# Altium footprint library J 接插件.PcbLib: 458 footprints (part 15 of 29)
Each footprint in its own frame and in the unit in brackets; x right, y up, seen from the top. Pads: shape width x height; smd on the part's side, far side on the other; paste and mask are expansions set on the pad; w line width, h text height; cw(c..) or ccw(c..) is an arc to the next point about the centre after c.
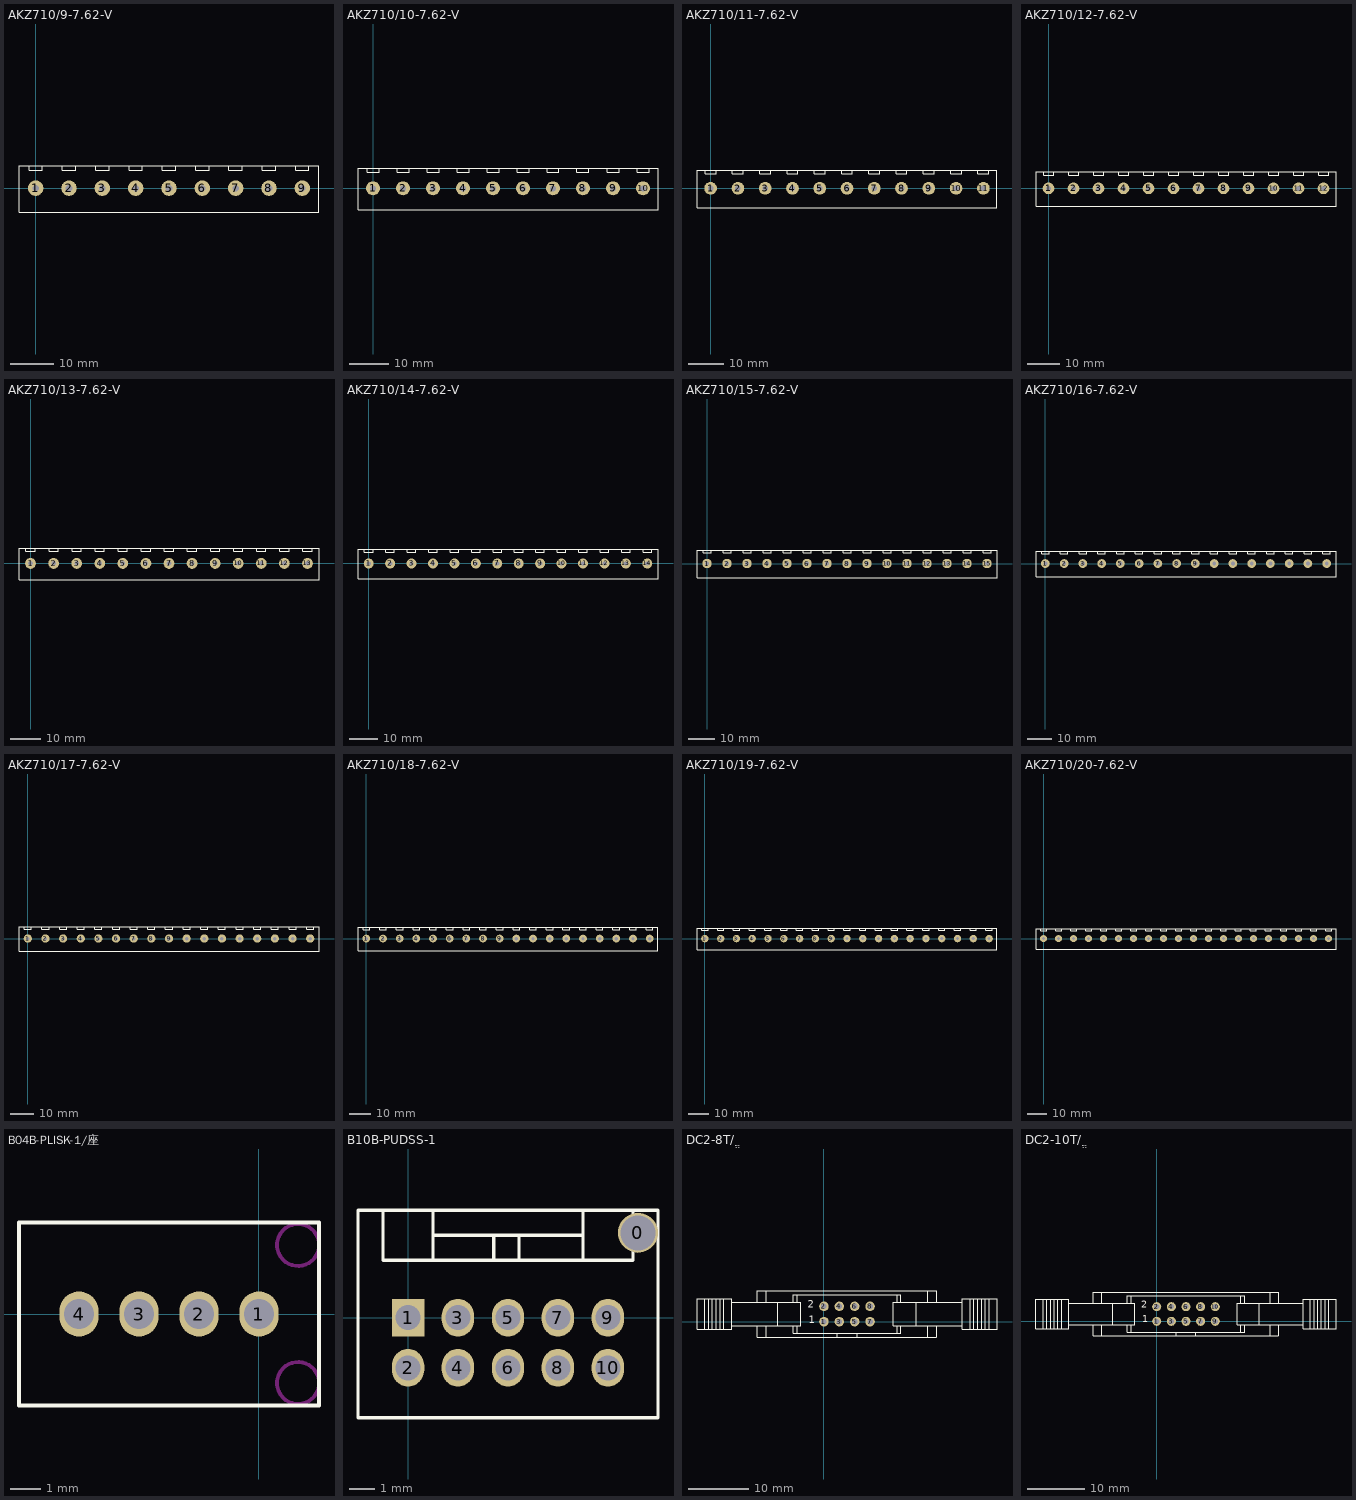
[diagram p14: the footprints below, top view; thin cyan lines are the x and y axes]

## AKZ710/9-7.62-V [mil] "美卡诺 AKZ710 接触件 间距：7.62   9Pin"
height 748.03
pads (9):
  round 140 hole 60: 1(0,0) 2(300,0) 3(600,0) 4(900,0) 5(1200,0) 6(1500,0) 7(1800,0) 8(2100,0) 9(2400,0)
Top Overlay:
  lines w10: -60,200 -60,160 60,160 60,200 ; 240,200 240,160 360,160 360,200 ; 540,200 540,160 660,160 660,200 ; 840,200 840,160 960,160 960,200 ; 1140,200 1140,160 1260,160 1260,200 ; 1440,200 1440,160 1560,160 1560,200 ; 1740,200 1740,160 1860,160 1860,200 ; 2040,200 2040,160 2160,160 2160,200 ; 2340,200 2340,160 2460,160 2460,200 ; -150,-215 -150,200 2550,200 2550,-215 -150,-215

## AKZ710/10-7.62-V [mil] "美卡诺 AKZ710 接触件 间距：7.62   10Pin"
height 748.03
pads (10):
  round 140 hole 60: 1(0,0) 2(300,0) 3(600,0) 4(900,0) 5(1200,0) 6(1500,0) 7(1800,0) 8(2100,0) 9(2400,0) 10(2700,0)
Top Overlay:
  lines w10: -60,200 -60,160 60,160 60,200 ; 240,200 240,160 360,160 360,200 ; 540,200 540,160 660,160 660,200 ; 840,200 840,160 960,160 960,200 ; 1140,200 1140,160 1260,160 1260,200 ; 1440,200 1440,160 1560,160 1560,200 ; 1740,200 1740,160 1860,160 1860,200 ; 2040,200 2040,160 2160,160 2160,200 ; 2340,200 2340,160 2460,160 2460,200 ; 2640,200 2640,160 2760,160 2760,200 ; -150,-215 -150,200 2850,200 2850,-215 -150,-215

## AKZ710/11-7.62-V [mil] "美卡诺 AKZ710 接触件 间距：7.62   11Pin"
height 748.03
pads (11):
  round 140 hole 60: 1(0,0) 2(300,0) 3(600,0) 4(900,0) 5(1200,0) 6(1500,0) 7(1800,0) 8(2100,0) 9(2400,0) 10(2700,0) 11(3000,0)
Top Overlay:
  lines w10: -60,200 -60,160 60,160 60,200 ; 240,200 240,160 360,160 360,200 ; 540,200 540,160 660,160 660,200 ; 840,200 840,160 960,160 960,200 ; 1140,200 1140,160 1260,160 1260,200 ; 1440,200 1440,160 1560,160 1560,200 ; 1740,200 1740,160 1860,160 1860,200 ; 2040,200 2040,160 2160,160 2160,200 ; 2340,200 2340,160 2460,160 2460,200 ; 2640,200 2640,160 2760,160 2760,200 ; 2940,200 2940,160 3060,160 3060,200 ; -150,-215 3150,-215 3150,200 -150,200 -150,-215

## AKZ710/12-7.62-V [mil] "美卡诺 AKZ710 接触件 间距：7.62   12Pin"
height 748.03
pads (12):
  round 140 hole 60: 1(0,0) 2(300,0) 3(600,0) 4(900,0) 5(1200,0) 6(1500,0) 7(1800,0) 8(2100,0) 9(2400,0) 10(2700,0) 11(3000,0) 12(3300,0)
Top Overlay:
  lines w10: -60,200 -60,160 60,160 60,200 ; 240,200 240,160 360,160 360,200 ; 540,200 540,160 660,160 660,200 ; 840,200 840,160 960,160 960,200 ; 1140,200 1140,160 1260,160 1260,200 ; 1440,200 1440,160 1560,160 1560,200 ; 1740,200 1740,160 1860,160 1860,200 ; 2040,200 2040,160 2160,160 2160,200 ; 2340,200 2340,160 2460,160 2460,200 ; 2640,200 2640,160 2760,160 2760,200 ; 2940,200 2940,160 3060,160 3060,200 ; 3240,200 3240,160 3360,160 3360,200 ; -150,-215 -150,200 3450,200 3450,-215 -150,-215

## AKZ710/13-7.62-V [mil] "美卡诺 AKZ710 接触件 间距：7.62   13Pin"
height 748.03
pads (13):
  round 140 hole 60: 1(0,0) 2(300,0) 3(600,0) 4(900,0) 5(1200,0) 6(1500,0) 7(1800,0) 8(2100,0) 9(2400,0) 10(2700,0) 11(3000,0) 12(3300,0) 13(3600,0)
Top Overlay:
  lines w10: -60,200 -60,160 60,160 60,200 ; 240,200 240,160 360,160 360,200 ; 540,200 540,160 660,160 660,200 ; 840,200 840,160 960,160 960,200 ; 1140,200 1140,160 1260,160 1260,200 ; 1440,200 1440,160 1560,160 1560,200 ; 1740,200 1740,160 1860,160 1860,200 ; 2040,200 2040,160 2160,160 2160,200 ; 2340,200 2340,160 2460,160 2460,200 ; 2640,200 2640,160 2760,160 2760,200 ; 2940,200 2940,160 3060,160 3060,200 ; 3240,200 3240,160 3360,160 3360,200 ; 3540,200 3540,160 3660,160 3660,200 ; -150,-215 -150,200 3750,200 3750,-215 -150,-215

## AKZ710/14-7.62-V [mil] "美卡诺 AKZ710 接触件 间距：7.62   14Pin"
height 748.03
pads (14):
  round 140 hole 60: 1(0,0) 2(300,0) 3(600,0) 4(900,0) 5(1200,0) 6(1500,0) 7(1800,0) 8(2100,0) 9(2400,0) 10(2700,0) 11(3000,0) 12(3300,0) 13(3600,0) 14(3900,0)
Top Overlay:
  lines w10: -60,200 -60,160 60,160 60,200 ; 240,200 240,160 360,160 360,200 ; 540,200 540,160 660,160 660,200 ; 840,200 840,160 960,160 960,200 ; 1140,200 1140,160 1260,160 1260,200 ; 1440,200 1440,160 1560,160 1560,200 ; 1740,200 1740,160 1860,160 1860,200 ; 2040,200 2040,160 2160,160 2160,200 ; 2340,200 2340,160 2460,160 2460,200 ; 2640,200 2640,160 2760,160 2760,200 ; 2940,200 2940,160 3060,160 3060,200 ; 3240,200 3240,160 3360,160 3360,200 ; 3540,200 3540,160 3660,160 3660,200 ; 3840,200 3840,160 3960,160 3960,200 ; -150,-215 -150,200 4050,200 4050,-215 -150,-215

## AKZ710/15-7.62-V [mil] "美卡诺 AKZ710 接触件 间距：7.62   15Pin"
height 748.03
pads (15):
  round 140 hole 60: 1(0,0) 2(300,0) 3(600,0) 4(900,0) 5(1200,0) 6(1500,0) 7(1800,0) 8(2100,0) 9(2400,0) 10(2700,0) 11(3000,0) 12(3300,0) 13(3600,0) 14(3900,0) 15(4200,0)
Top Overlay:
  lines w10: -60,200 -60,160 60,160 60,200 ; 240,200 240,160 360,160 360,200 ; 540,200 540,160 660,160 660,200 ; 840,200 840,160 960,160 960,200 ; 1140,200 1140,160 1260,160 1260,200 ; 1440,200 1440,160 1560,160 1560,200 ; 1740,200 1740,160 1860,160 1860,200 ; 2040,200 2040,160 2160,160 2160,200 ; 2340,200 2340,160 2460,160 2460,200 ; 2640,200 2640,160 2760,160 2760,200 ; 2940,200 2940,160 3060,160 3060,200 ; 3240,200 3240,160 3360,160 3360,200 ; 3540,200 3540,160 3660,160 3660,200 ; 3840,200 3840,160 3960,160 3960,200 ; 4140,200 4140,160 4260,160 4260,200 ; -150,-215 -150,200 4350,200 4350,-215 -150,-215

## AKZ710/16-7.62-V [mil] "美卡诺 AKZ710 接触件 间距：7.62   16Pin"
height 748.03
pads (16):
  round 140 hole 60: 1(0,0) 2(300,0) 3(600,0) 4(900,0) 5(1200,0) 6(1500,0) 7(1800,0) 8(2100,0) 9(2400,0) 10(2700,0) 11(3000,0) 12(3300,0) 13(3600,0) 14(3900,0) 15(4200,0) 16(4500,0)
Top Overlay:
  lines w10: -60,200 -60,160 60,160 60,200 ; 240,200 240,160 360,160 360,200 ; 540,200 540,160 660,160 660,200 ; 840,200 840,160 960,160 960,200 ; 1140,200 1140,160 1260,160 1260,200 ; 1440,200 1440,160 1560,160 1560,200 ; 1740,200 1740,160 1860,160 1860,200 ; 2040,200 2040,160 2160,160 2160,200 ; 2340,200 2340,160 2460,160 2460,200 ; 2640,200 2640,160 2760,160 2760,200 ; 2940,200 2940,160 3060,160 3060,200 ; 3240,200 3240,160 3360,160 3360,200 ; 3540,200 3540,160 3660,160 3660,200 ; 3840,200 3840,160 3960,160 3960,200 ; 4140,200 4140,160 4260,160 4260,200 ; 4440,200 4440,160 4560,160 4560,200 ; -150,-215 -150,200 4650,200 4650,-215 -150,-215

## AKZ710/17-7.62-V [mil] "美卡诺 AKZ710 接触件 间距：7.62   17Pin"
height 748.03
pads (17):
  round 140 hole 60: 1(0,0) 2(300,0) 3(600,0) 4(900,0) 5(1200,0) 6(1500,0) 7(1800,0) 8(2100,0) 9(2400,0) 10(2700,0) 11(3000,0) 12(3300,0) 13(3600,0) 14(3900,0) 15(4200,0) 16(4500,0) 17(4800,0)
Top Overlay:
  lines w10: -60,200 -60,160 60,160 60,200 ; 240,200 240,160 360,160 360,200 ; 540,200 540,160 660,160 660,200 ; 840,200 840,160 960,160 960,200 ; 1140,200 1140,160 1260,160 1260,200 ; 1440,200 1440,160 1560,160 1560,200 ; 1740,200 1740,160 1860,160 1860,200 ; 2040,200 2040,160 2160,160 2160,200 ; 2340,200 2340,160 2460,160 2460,200 ; 2640,200 2640,160 2760,160 2760,200 ; 2940,200 2940,160 3060,160 3060,200 ; 3240,200 3240,160 3360,160 3360,200 ; 3540,200 3540,160 3660,160 3660,200 ; 3840,200 3840,160 3960,160 3960,200 ; 4140,200 4140,160 4260,160 4260,200 ; 4440,200 4440,160 4560,160 4560,200 ; 4740,200 4740,160 4860,160 4860,200 ; -150,-215 -150,200 4950,200 4950,-215 -150,-215

## AKZ710/18-7.62-V [mil] "美卡诺 AKZ710 接触件 间距：7.62   18Pin"
height 748.03
pads (18):
  round 140 hole 60: 1(0,0) 2(300,0) 3(600,0) 4(900,0) 5(1200,0) 6(1500,0) 7(1800,0) 8(2100,0) 9(2400,0) 10(2700,0) 11(3000,0) 12(3300,0) 13(3600,0) 14(3900,0) 15(4200,0) 16(4500,0) 17(4800,0) 18(5100,0)
Top Overlay:
  lines w10: -60,200 -60,160 60,160 60,200 ; 240,200 240,160 360,160 360,200 ; 540,200 540,160 660,160 660,200 ; 840,200 840,160 960,160 960,200 ; 1140,200 1140,160 1260,160 1260,200 ; 1440,200 1440,160 1560,160 1560,200 ; 1740,200 1740,160 1860,160 1860,200 ; 2040,200 2040,160 2160,160 2160,200 ; 2340,200 2340,160 2460,160 2460,200 ; 2640,200 2640,160 2760,160 2760,200 ; 2940,200 2940,160 3060,160 3060,200 ; 3240,200 3240,160 3360,160 3360,200 ; 3540,200 3540,160 3660,160 3660,200 ; 3840,200 3840,160 3960,160 3960,200 ; 4140,200 4140,160 4260,160 4260,200 ; 4440,200 4440,160 4560,160 4560,200 ; 4740,200 4740,160 4860,160 4860,200 ; 5040,200 5040,160 5160,160 5160,200 ; -150,-215 -150,200 5250,200 5250,-215 -150,-215

## AKZ710/19-7.62-V [mil] "美卡诺 AKZ710 接触件 间距：7.62   19Pin"
height 748.03
pads (19):
  round 140 hole 60: 1(0,0) 2(300,0) 3(600,0) 4(900,0) 5(1200,0) 6(1500,0) 7(1800,0) 8(2100,0) 9(2400,0) 10(2700,0) 11(3000,0) 12(3300,0) 13(3600,0) 14(3900,0) 15(4200,0) 16(4500,0) 17(4800,0) 18(5100,0) 19(5400,0)
Top Overlay:
  lines w10: -60,200 -60,160 60,160 60,200 ; 240,200 240,160 360,160 360,200 ; 540,200 540,160 660,160 660,200 ; 840,200 840,160 960,160 960,200 ; 1140,200 1140,160 1260,160 1260,200 ; 1440,200 1440,160 1560,160 1560,200 ; 1740,200 1740,160 1860,160 1860,200 ; 2040,200 2040,160 2160,160 2160,200 ; 2340,200 2340,160 2460,160 2460,200 ; 2640,200 2640,160 2760,160 2760,200 ; 2940,200 2940,160 3060,160 3060,200 ; 3240,200 3240,160 3360,160 3360,200 ; 3540,200 3540,160 3660,160 3660,200 ; 3840,200 3840,160 3960,160 3960,200 ; 4140,200 4140,160 4260,160 4260,200 ; 4440,200 4440,160 4560,160 4560,200 ; 4740,200 4740,160 4860,160 4860,200 ; 5040,200 5040,160 5160,160 5160,200 ; 5340,200 5340,160 5460,160 5460,200 ; -150,-215 5550,-215 5550,200 -150,200 -150,-215

## AKZ710/20-7.62-V [mil] "美卡诺 AKZ710 接触件 间距：7.62   20Pin"
height 748.03
pads (20):
  round 140 hole 60: 1(0,0) 2(300,0) 3(600,0) 4(900,0) 5(1200,0) 6(1500,0) 7(1800,0) 8(2100,0) 9(2400,0) 10(2700,0) 11(3000,0) 12(3300,0) 13(3600,0) 14(3900,0) 15(4200,0) 16(4500,0) 17(4800,0) 18(5100,0) 19(5400,0) 20(5700,0)
Top Overlay:
  lines w10: -60,200 -60,160 60,160 60,200 ; 240,200 240,160 360,160 360,200 ; 540,200 540,160 660,160 660,200 ; 840,200 840,160 960,160 960,200 ; 1140,200 1140,160 1260,160 1260,200 ; 1440,200 1440,160 1560,160 1560,200 ; 1740,200 1740,160 1860,160 1860,200 ; 2040,200 2040,160 2160,160 2160,200 ; 2340,200 2340,160 2460,160 2460,200 ; 2640,200 2640,160 2760,160 2760,200 ; 2940,200 2940,160 3060,160 3060,200 ; 3240,200 3240,160 3360,160 3360,200 ; 3540,200 3540,160 3660,160 3660,200 ; 3840,200 3840,160 3960,160 3960,200 ; 4140,200 4140,160 4260,160 4260,200 ; 4440,200 4440,160 4560,160 4560,200 ; 4740,200 4740,160 4860,160 4860,200 ; 5040,200 5040,160 5160,160 5160,200 ; 5340,200 5340,160 5460,160 5460,200 ; 5640,200 5640,160 5760,160 5760,200 ; -150,-215 -150,200 5850,200 5850,-215 -150,-215

## B04B-PLISK-1/座 [mm] "接插件"
height 2.2
pads (4):
  oval 1.3x1.5 hole 1: 1(0,0) 2(-2,0) 3(-4,0) 4(-6,0)
Top Overlay:
  lines w0.127: -8,-3.05 -8,3.05 2,3.05 2,-3.05 -7.975,-3.05
Keep-Out Layer:
  circle w0.127: c1.3,2.3 r0.7
  circle w0.127: c1.3,-2.3 r0.7

## B10B-PUDSS-1 [mm]
pads (11):
  round 1.6 hole 1.4: 0(9.2,3.4)
  rect 1.3x1.5 hole 1: 1(0,0)
  oval 1.3x1.5 hole 1: 2(0,-2) 3(2,0) 4(2,-2) 5(4,0) 6(4,-2) 7(6,0) 8(6,-2) 9(8,0) 10(8,-2)
Top Overlay:
  lines w0.127: -1,4.3 -1,2.3 9,2.3 9,4.3 ; 1,2.3 1,4.3 ; 1,3.3 7,3.3 ; 3.428,2.3 3.428,3.3 ; 4.444,2.3 4.444,3.3 ; 7,2.3 7,4.3 ; 7,4.3 -2,4.3 -2,-4 10,-4 10,4.3 7,4.3

## DC2-8T/ֱ [mil] "双排排线带翅膀，8针"
height 590.55
pads (8):
  round 62 hole 35: 1(0,0) 2(0,100) 3(100,0) 4(100,100) 5(200,0) 6(200,100) 7(300,0) 8(300,100)
Top Overlay:
  lines w8: -775,-50 -775,150 ; -750,-50 -750,150 ; -725,-50 -725,150 ; -700,-50 -700,150 ; -675,-50 -675,150 ; -650,-50 -650,150 ; -600,-25 -433.33,-25 ; -600,125 -433.33,125 ; -375,-100 -375,-25 ; -375,125 -375,200 ; -300,-25 -300,125 ; -175,-75 -175,-25 ; -175,125 -175,175 ; 85,-100 85,-75 ; 215,-100 215,-75 ; 475,-75 475,-25 ; 475,125 475,175 ; 600,-25 600,125 ; 675,-100 675,-25 ; 675,125 675,200 ; 730,-100 -433.33,-100 -433.33,-25 ; 733.33,-100 733.33,-25 ; 900,-25 733.33,-25 ; 900,125 733.33,125 ; 950,-50 950,150 ; 975,-50 975,150 ; 1000,-50 1000,150 ; 1025,-50 1025,150 ; 1050,-50 1050,150 ; 1075,-50 1075,150 ; -433.33,-25 -200,-25 ; -433.33,125 -200,125 ; -433.33,125 -433.33,200 733.33,200 733.33,125 ; -200,-25 -150,-25 -150,125 -200,125 ; -200,-25 -200,-75 125,-75 275,-75 500,-75 500,-25 ; -200,125 -200,175 500,175 500,125 ; 500,-25 450,-25 450,125 500,125 ; 500,-25 733.33,-25 ; 500,125 733.33,125 ; -825,-50 -825,150 -600,150 -600,-50 -825,-50 ; 900,-50 900,150 1125,150 1125,-50 900,-50
  text "2" at -105,75 h80
  text "1" at -100,-25 h80

## DC2-10T/ֱ [mil] "双排排线带翅膀，10针"
height 590.55
pads (10):
  round 62 hole 35: 1(0,0) 2(0,100) 3(100,0) 4(100,100) 5(200,0) 6(200,100) 7(300,0) 8(300,100) 9(400,0) 10(400,100)
Top Overlay:
  lines w8: -775,-50 -775,150 ; -750,-50 -750,150 ; -725,-50 -725,150 ; -700,-50 -700,150 ; -675,-50 -675,150 ; -650,-50 -650,150 ; -600,-25 -433.33,-25 ; -600,125 -433.33,125 ; -375,-100 -375,-25 ; -375,125 -375,200 ; -300,-25 -300,125 ; -175,-75 -175,-25 ; -175,125 -175,175 ; 135,-100 135,-75 ; 265,-100 265,-75 ; 575,-75 575,-25 ; 575,125 575,175 ; 700,-25 700,125 ; 775,-100 775,-25 ; 775,125 775,200 ; 830,-100 -433.33,-100 -433.33,-25 ; 830,200 -433.33,200 -433.33,125 ; 833.33,-100 833.33,-25 ; 833.33,200 833.33,125 ; 1000,-25 833.33,-25 ; 1000,125 833.33,125 ; 1050,-50 1050,150 ; 1075,-50 1075,150 ; 1100,-50 1100,150 ; 1125,-50 1125,150 ; 1150,-50 1150,150 ; 1175,-50 1175,150 ; -433.33,-25 -200,-25 ; -433.33,125 -200,125 ; -200,-25 -150,-25 -150,125 -200,125 ; -200,-25 -200,-75 125,-75 275,-75 600,-75 600,-25 ; -200,125 -200,175 600,175 600,125 ; 600,-25 550,-25 550,125 600,125 ; 600,-25 833.33,-25 ; 600,125 833.33,125 ; -825,-50 -825,150 -600,150 -600,-50 -825,-50 ; 1000,-50 1000,150 1225,150 1225,-50 1000,-50
  text "2" at -105,75 h80
  text "1" at -100,-25 h80